# Altium footprint library JMPKG.PcbLib: 337 footprints (part 13 of 22)
Each footprint in its own frame and in the unit in brackets; x right, y up, seen from the top. Pads: shape width x height; smd on the part's side, far side on the other; paste and mask are expansions set on the pad; w line width, h text height; cw(c..) or ccw(c..) is an arc to the next point about the centre after c.
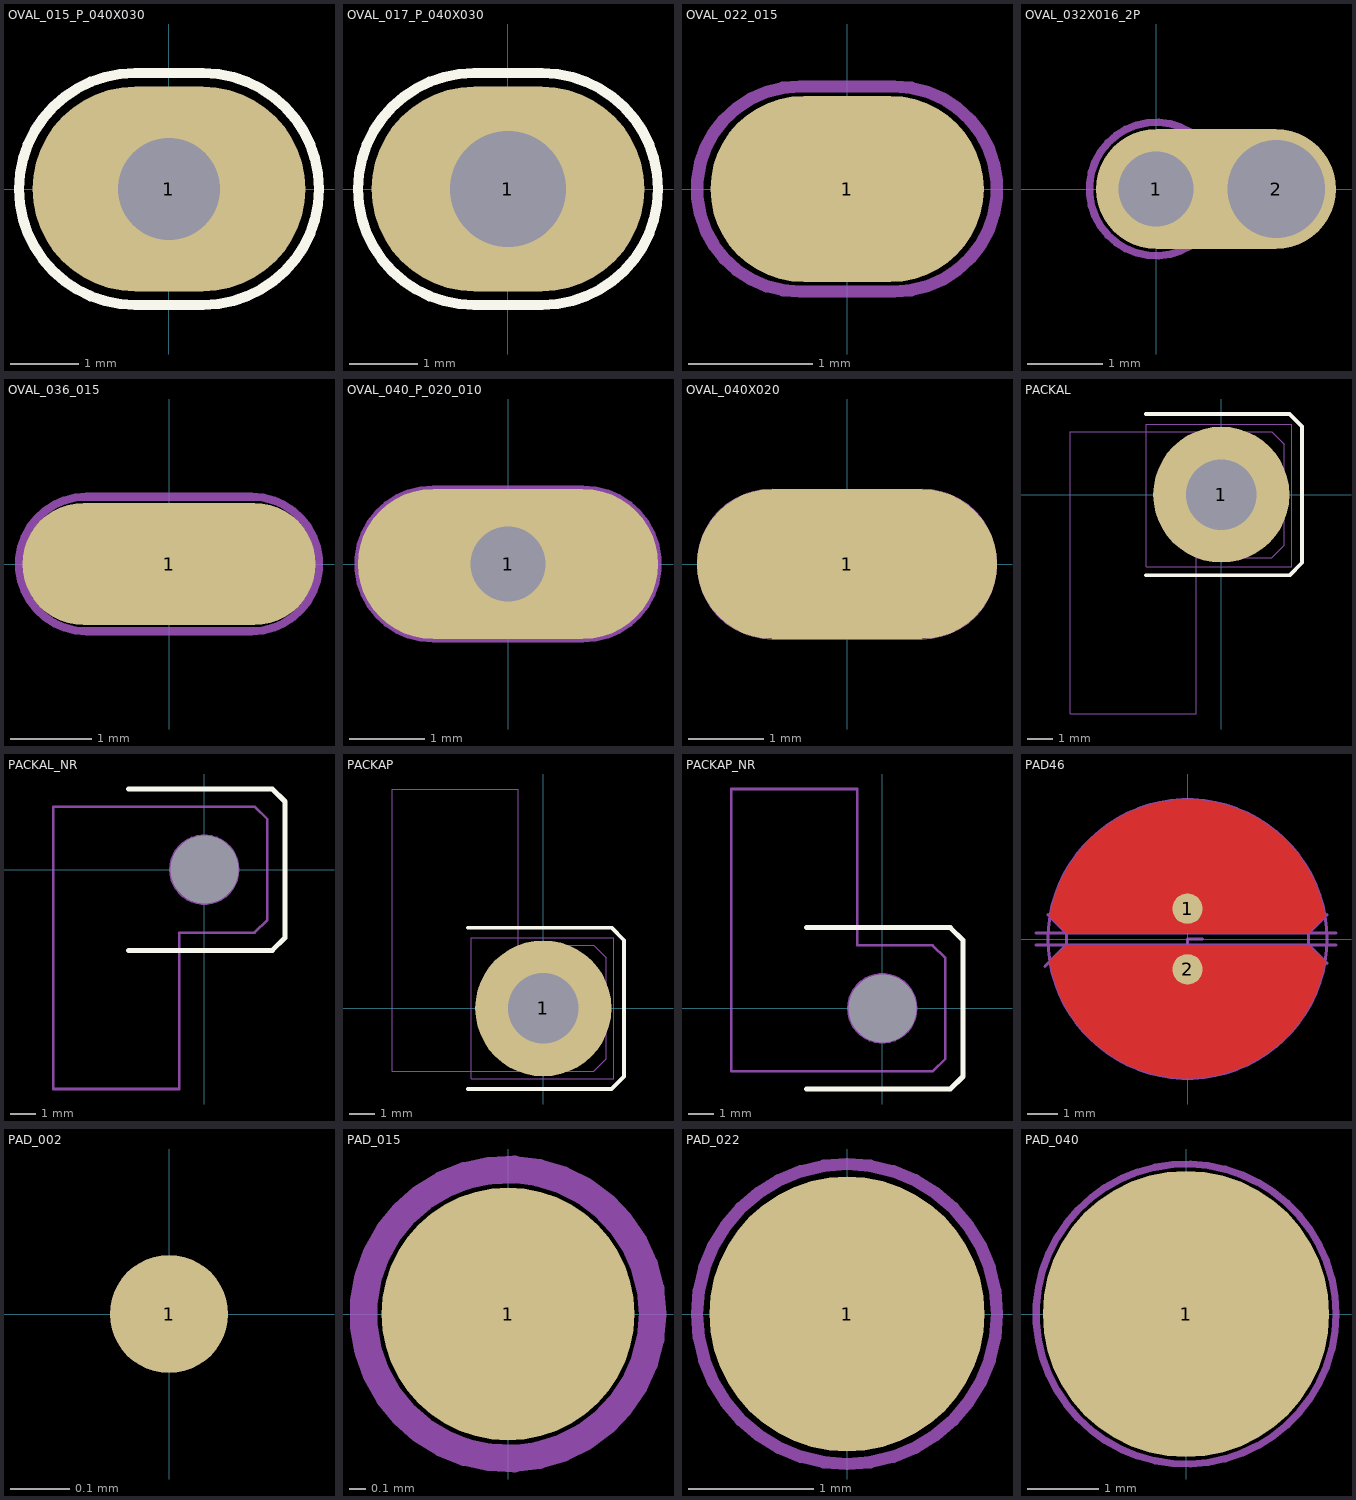
[diagram p12: the footprints below, top view; thin cyan lines are the x and y axes]

## OVAL_015_P_040X030 [mm]
pads (1):
  oval 4x3 hole 1.5 mask+0.05: 1(0,0)
Top Overlay:
  lines w0.15: -0.497,1.7 ccw(c-0.5,0) -0.494,-1.7 ; -0.495,-1.7 0.5,-1.7 ccw(c0.5,0) 0.5,1.7 -0.495,1.7
Mechanical 15:
  circle w0.01: c0,0 r0.75
Mechanical 16:
  circle w0.01: c0,0 r0.75
Multi-Layer:
  text "Value" at -1.172,-1.11 h0.75
Mechanical 20:
  lines w0.01: -0.497,1.7 ccw(c-0.5,0) -0.494,-1.7 ; -0.495,-1.7 0.5,-1.7 ccw(c0.5,0) 0.5,1.7 -0.495,1.7

## OVAL_017_P_040X030 [mm]
pads (1):
  oval 4x3 hole 1.7 mask+0.05: 1(0,0)
Top Overlay:
  lines w0.15: -0.497,1.7 ccw(c-0.5,0) -0.494,-1.7 ; -0.495,-1.7 0.5,-1.7 ccw(c0.5,0) 0.5,1.7 -0.495,1.7
Mechanical 15:
  circle w0.1: c0,0 r0.85
Mechanical 16:
  circle w0.1: c0,0 r0.85
Multi-Layer:
  text "Value" at -1.12,-1.022 h0.75
Mechanical 20:
  lines w0.1: -0.497,1.7 ccw(c-0.5,0) -0.494,-1.7 ; -0.495,-1.7 0.5,-1.7 ccw(c0.5,0) 0.5,1.7 -0.495,1.7

## OVAL_022_015 [mm]
pads (1):
  oval 2.2x1.5 smd mask+0.1: 1(0,0)
Mechanical 15:
  lines w0.1: -0.382,0.826 ccw(c-0.383,0) -0.381,-0.825 0.381,-0.826 ccw(c0.381,0) 0.381,0.826 -0.381,0.826

## OVAL_032X016_2P [mm]
pads (2):
  oval 3.2x1.6 hole 1 copper offset 0.8,0 mask+0.05: 1(0,0)
  round 1.6 hole 1.3 mask+0.05: 2(1.6,0)
Mechanical 15:
  circle w0.1: c0,0 r0.889
Multi-Layer:
  text "Value" at -0.245,-0.679 h0.75

## OVAL_036_015 [mm]
pads (1):
  oval 3.6x1.5 smd mask+0.1: 1(0,0)
Mechanical 15:
  lines w0.1: -1.015,0.826 ccw(c-1.016,0) -1.013,-0.825 1.016,-0.826 ccw(c1.016,0) 1.016,0.826 -1.014,0.826
Multi-Layer:
  text "Value" at -1.045,-0.679 h0.75

## OVAL_040_P_020_010 [mm]
pads (1):
  oval 4x2 / inner round 1.5 / far side round 1.5 hole 1 mask+0.05: 1(0,0)
Mechanical 15:
  lines w0.1: -1,-1 1,-1 ccw(c1,0) 1,1 -1,1 ccw(c-1,0) -1,-1
Multi-Layer:
  text "Value" at -1.335,-0.825 h0.75

## OVAL_040X020 [mm]
pads (1):
  oval 4x2 smd mask+0.05: 1(0,0)
Mechanical 15:
  lines w0.01: -1,-1 cw(c-1,0) -1,1 1,1 cw(c1,0) 1,-1 -1,-1
Multi-Layer:
  text "Value" at -1.088,-0.975 h0.6
  text "Value" at -1.29,-0.78 h0.75

## PACKAL [mm]
pads (1):
  round 5.4 hole 2.8 mask+0.05: 1(0,0)
Top Overlay:
  lines w0.15: -3,-3.2 2.7,-3.2 3.2,-2.7 3.2,2.7 2.7,3.2 -3,3.2
Mechanical 15:
  lines w0.01: -6,-8.7 -1,-8.7 -1,-2.5 2,-2.5 2.5,-2 2.5,2 2,2.5 -6,2.5 -6,-8.7
Drill Drawing:
  circle w0.01: c0,0 r1.4
Mechanical 20:
  lines w0.01: -2.984,-2.857 -2.984,2.794 2.794,2.794 2.794,-2.857 -2.984,-2.857

## PACKAL_NR [mm]
pads (1):
  round 0 hole 2.7 unplated: 1(0,0)
Top Overlay:
  lines w0.2: -3,-3.2 2.7,-3.2 3.2,-2.7 3.2,2.7 2.7,3.2 -3,3.2
Mechanical 15:
  circle w0.1: c0,0 r1.35
  lines w0.1: -6,-8.7 -1,-8.7 -1,-2.5 2,-2.5 2.5,-2 2.5,2 2,2.5 -6,2.5 -6,-8.7
Mechanical 16:
  circle w0.1: c0,0 r1.35

## PACKAP [mm]
pads (1):
  round 5.4 hole 2.8 mask+0.05: 1(0,0)
Top Overlay:
  lines w0.15: -3,-3.2 2.7,-3.2 3.2,-2.7 3.2,2.7 2.7,3.2 -3,3.2
Mechanical 15:
  lines w0.01: -6,-2.5 -6,8.7 -1,8.7 -1,2.5 2,2.5 2.5,2 2.5,-2 2,-2.5 -6,-2.5
Drill Drawing:
  circle w0.01: c0,0 r1.4
Mechanical 20:
  lines w0.01: -2.857,-2.794 2.794,-2.794 2.794,2.794 -2.857,2.794 -2.857,-2.794

## PACKAP_NR [mm]
pads (1):
  round 0 hole 2.7 unplated: 1(0,0)
Top Overlay:
  lines w0.2: -3,-3.2 2.7,-3.2 3.2,-2.7 3.2,2.7 2.7,3.2 -3,3.2
Mechanical 15:
  circle w0.1: c0,0 r1.35
  lines w0.1: -6,-2.5 -6,8.7 -1,8.7 -1,2.5 2,2.5 2.5,2 2.5,-2 2,-2.5 -6,-2.5
Mechanical 16:
  circle w0.1: c0,0 r1.35

## PAD46 [mm]
pads (2):
  round 1 smd mask+0.05: 1(0,1) 2(0,-1)
L1-Top Layer:
  region: -4,0.2 -4.54,0.74 -4.49,1 4.49,1 4.54,0.74 4,0.2
  region: 4.54,0.743 4.513,0.898 4.463,1.118 4.403,1.336 4.332,1.55 4.251,1.761 4.16,1.967 4.058,2.169 3.947,2.366 3.826,2.556 3.696,2.741 3.557,2.919 3.409,3.09 3.254,3.254 3.09,3.409 2.919,3.557 2.741,3.696 2.556,3.826 2.366,3.947 2.169,4.058 1.967,4.16 1.761,4.251 1.55,4.332 1.336,4.403 1.118,4.463 0.898,4.513 0.675,4.552 0.451,4.579 0.226,4.596 0,4.601 -0.226,4.596 -0.451,4.579 -0.675,4.552 -0.898,4.513 -1.118,4.463 -1.336,4.403 -1.55,4.332 -1.761,4.251 -1.967,4.16 -2.169,4.058 -2.366,3.947 -2.556,3.826 -2.741,3.696 -2.919,3.557 -3.09,3.409 -3.254,3.254 -3.409,3.09 -3.557,2.919 -3.696,2.741 -3.826,2.556 -3.947,2.366 -4.058,2.169 -4.16,1.967 -4.251,1.761 -4.332,1.55 -4.403,1.336 -4.463,1.118 -4.513,0.898 -4.541,0.736 -4.54,0.74 4.54,0.74
  region: 4,-0.2 4.54,-0.74 4.49,-1 -4.49,-1 -4.54,-0.74 -4,-0.2
  region: 4.54,-0.743 4.513,-0.898 4.463,-1.118 4.403,-1.336 4.332,-1.55 4.251,-1.761 4.16,-1.967 4.058,-2.169 3.947,-2.366 3.826,-2.556 3.696,-2.741 3.557,-2.919 3.409,-3.09 3.254,-3.254 3.09,-3.409 2.919,-3.557 2.741,-3.696 2.556,-3.826 2.366,-3.947 2.169,-4.058 1.967,-4.16 1.761,-4.251 1.55,-4.332 1.336,-4.403 1.118,-4.463 0.898,-4.513 0.675,-4.552 0.451,-4.579 0.226,-4.596 0,-4.601 -0.226,-4.596 -0.451,-4.579 -0.675,-4.552 -0.898,-4.513 -1.118,-4.463 -1.336,-4.403 -1.55,-4.332 -1.761,-4.251 -1.967,-4.16 -2.169,-4.058 -2.366,-3.947 -2.556,-3.826 -2.741,-3.696 -2.919,-3.557 -3.09,-3.409 -3.254,-3.254 -3.409,-3.09 -3.557,-2.919 -3.696,-2.741 -3.826,-2.556 -3.947,-2.366 -4.058,-2.169 -4.16,-1.967 -4.251,-1.761 -4.332,-1.55 -4.403,-1.336 -4.463,-1.118 -4.513,-0.898 -4.541,-0.736 -4.54,-0.74 4.54,-0.74
Mechanical 19:
  circle w0.1: c0,0 r4.6
  lines w0.1: -5,-0.2 4.9,-0.2 ; -5,0.2 4.9,0.2 ; -4.7,-0.9 -4,-0.2 -4,0.2 -4.6,0.8 ; 0,-0.5 0,0 0.5,0 ; 4.6,-0.8 4,-0.2 4,0.2 4.6,0.8

## PAD_002 [mm]
pads (1):
  round 0.2 smd: 1(0,0)

## PAD_015 [mm]
pads (1):
  round 1.5 smd mask+0.05: 1(0,0)
Mechanical 15:
  circle w0.1: c0,0 r0.826
Mechanical 20:
  circle w0.1: c0,0 r0.889

## PAD_022 [mm]
pads (1):
  round 2.2 smd paste-0.165 mask+0.05: 1(0,0)
Mechanical 15:
  circle w0.1: c0,0 r1.2

## PAD_040 [mm]
pads (1):
  round 4 smd mask+0.1: 1(0,0)
Mechanical 15:
  circle w0.1: c0,0 r2.095